# Altium footprint library 4.24-HY2.0连接器.PcbLib: 1 footprints
Each footprint in its own frame and in the unit in brackets; x right, y up, seen from the top. Pads: shape width x height; smd on the part's side, far side on the other; paste and mask are expansions set on the pad; w line width, h text height; cw(c..) or ccw(c..) is an arc to the next point about the centre after c.
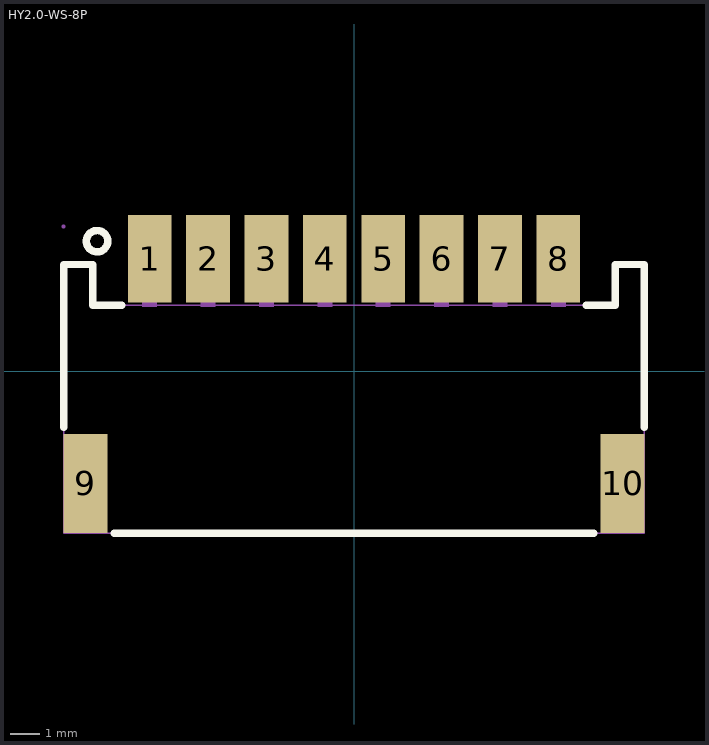
[diagram p0: the footprint, top view; thin cyan lines are the x and y axes]

## HY2.0-WS-8P [mm]
pads (10):
  rect 1.5x3 smd paste+0 mask+0.05: 1(-7,3.85) 2(-5,3.85) 3(-3,3.85) 4(-1,3.85) 5(1,3.85) 6(3,3.85) 7(5,3.85) 8(7,3.85)
  rect 1.5x3.4 smd paste+0 mask+0.05: 9(-9.2,-3.85) 10(9.2,-3.85)
Top Overlay:
  circle w0.254: c-8.8,4.45 r0.367
  lines w0.254: -9.95,-1.919 -9.95,3.65 -8.95,3.65 -8.95,2.25 -7.958,2.25 ; -8.219,-5.55 8.219,-5.55 ; 7.958,2.25 8.95,2.25 8.95,3.65 9.95,3.65 9.95,-1.919
Mechanical 6:
  circle w0.4: c-7.05,4.56 r0.2
Mechanical 15:
  region: -9.95,4.89 -9.925,4.89 -9.89,4.925 -9.89,4.975 -9.925,5.01 -9.95,5.01 -9.975,5.01 -10.01,4.975 -10.01,4.925 -9.975,4.89 -9.95,4.89
  region: -7.25,4.95 -6.75,4.95 -6.75,2.2 -7.25,2.2
  region: -5.25,4.95 -4.75,4.95 -4.75,2.2 -5.25,2.2
  region: -3.25,4.95 -2.75,4.95 -2.75,2.2 -3.25,2.2
  region: -1.25,4.95 -0.75,4.95 -0.75,2.2 -1.25,2.2
  region: 0.75,4.95 1.25,4.95 1.25,2.2 0.75,2.2
  region: 2.75,4.95 3.25,4.95 3.25,2.2 2.75,2.2
  region: 4.75,4.95 5.25,4.95 5.25,2.2 4.75,2.2
  region: 6.75,4.95 7.25,4.95 7.25,2.2 6.75,2.2
  region: 8.95,-2.35 9.45,-2.35 9.45,-5.35 8.95,-5.35
  region: -9.45,-2.35 -8.95,-2.35 -8.95,-5.35 -9.45,-5.35
  lines w0.051: -9.95,-5.55 -9.95,2.25 -9.95,3.65 -8.95,3.65 -8.95,2.25 8.95,2.25 8.95,3.65 9.95,3.65 9.95,2.25 9.95,-5.55 -9.95,-5.55
3D body "111.STEP": height 5.2, standoff 0, extent -9.805,-5.5 9.805,5